# EAGLE library part RP2350A (library RpiPico)
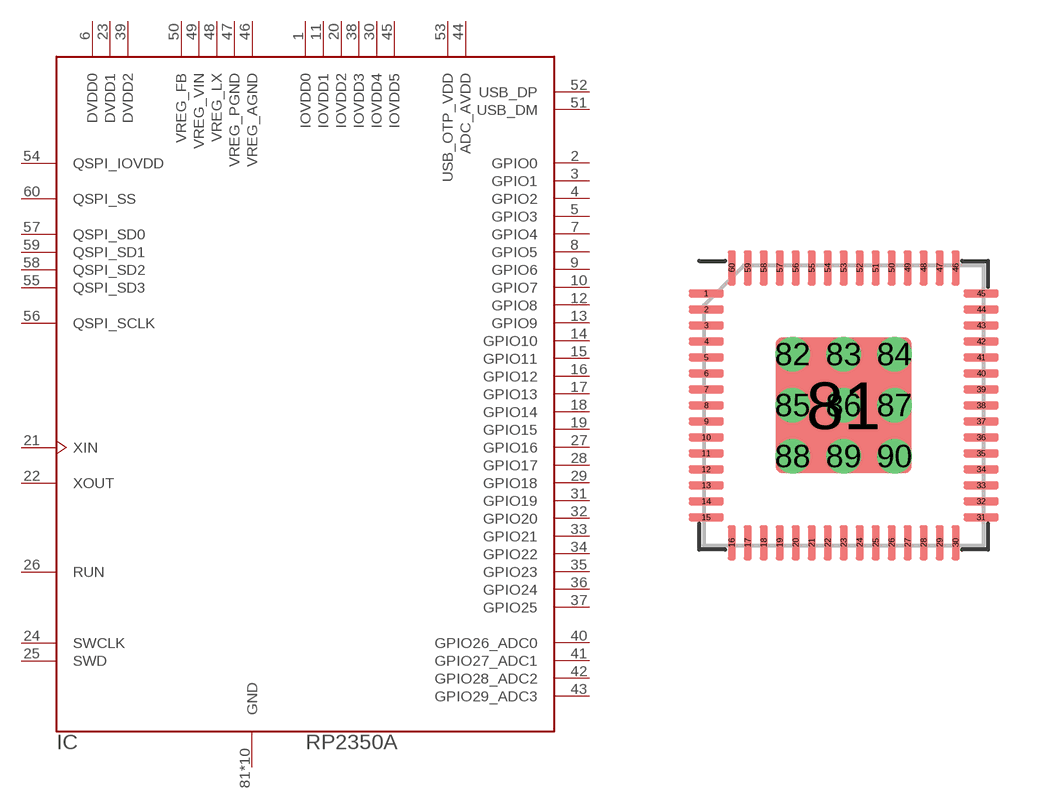
[diagram p3: symbol with the pads of RP2350-QFN-60; footprint RP2350-QFN-60]

Designator prefix IC

## RP2350A  [RP2350-QFN-60]
1  IOVDD0  pwr
2  GPIO0
3  GPIO1
4  GPIO2
5  GPIO3
6  DVDD0  pwr
7  GPIO4
8  GPIO5
9  GPIO6
10  GPIO7
11  IOVDD1  pwr
12  GPIO8
13  GPIO9
14  GPIO10
15  GPIO11
16  GPIO12
17  GPIO13
18  GPIO14
19  GPIO15
20  IOVDD2  pwr
21  XIN  in
22  XOUT  pas
23  DVDD1  pwr
24  SWCLK  out
25  SWD
26  RUN  in
27  GPIO16
28  GPIO17
29  GPIO18
30  IOVDD4  pwr
31  GPIO19
32  GPIO20
33  GPIO21
34  GPIO22
35  GPIO23
36  GPIO24
37  GPIO25
38  IOVDD3  pwr
39  DVDD2  pwr
40  GPIO26_ADC0
41  GPIO27_ADC1
42  GPIO28_ADC2
43  GPIO29_ADC3
44  ADC_AVDD  pwr
45  IOVDD5  pwr
46  VREG_AGND  pwr
47  VREG_PGND  pwr
48  VREG_LX  pwr
49  VREG_VIN  pwr
50  VREG_FB  pwr
51  USB_DM
52  USB_DP
53  USB_OTP_VDD  pwr
54  QSPI_IOVDD  pwr
55  QSPI_SD3
56  QSPI_SCLK  out
57  QSPI_SD0
58  QSPI_SD2
59  QSPI_SD1
60  QSPI_SS
81  GND  pwr
82  GND  pwr
83  GND  pwr
84  GND  pwr
85  GND  pwr
86  GND  pwr
87  GND  pwr
88  GND  pwr
89  GND  pwr
90  GND  pwr

## Footprint RP2350-QFN-60 (pad centres in mm)
smd 0.875 x 0.2: 1 -3.438,2.8; 2 -3.438,2.4; 3 -3.438,2; 4 -3.438,1.6; 5 -3.438,1.2; 6 -3.438,0.8; 7 -3.438,0.4; 8 -3.438,0; 9 -3.438,-0.4; 10 -3.438,-0.8; 11 -3.438,-1.2; 12 -3.438,-1.6; 13 -3.438,-2; 14 -3.438,-2.4; 15 -3.438,-2.8; 31 3.438,-2.8; 32 3.438,-2.4; 33 3.438,-2; 34 3.438,-1.6; 35 3.438,-1.2; 36 3.438,-0.8; 37 3.438,-0.4; 38 3.438,0; 39 3.438,0.4; 40 3.438,0.8; 41 3.438,1.2; 42 3.438,1.6; 43 3.438,2; 44 3.438,2.4; 45 3.438,2.8
smd 0.2 x 0.875: 16 -2.8,-3.438; 17 -2.4,-3.438; 18 -2,-3.438; 19 -1.6,-3.438; 20 -1.2,-3.438; 21 -0.8,-3.438; 22 -0.4,-3.438; 23 0,-3.438; 24 0.4,-3.438; 25 0.8,-3.438; 26 1.2,-3.438; 27 1.6,-3.438; 28 2,-3.438; 29 2.4,-3.438; 30 2.8,-3.438; 46 2.8,3.438; 47 2.4,3.438; 48 2,3.438; 49 1.6,3.438; 50 1.2,3.438; 51 0.8,3.438; 52 0.4,3.438; 53 0,3.438; 54 -0.4,3.438; 55 -0.8,3.438; 56 -1.2,3.438; 57 -1.6,3.438; 58 -2,3.438; 59 -2.4,3.438; 60 -2.8,3.438
smd 3.4 x 3.4: 81 0,0
drill 0.35 pad 0.6: 82 -1.275,1.275; 83 0,1.275; 84 1.275,1.275; 85 -1.275,0; 86 0,0; 87 1.275,0; 88 -1.275,-1.275; 89 0,-1.275; 90 1.275,-1.275